# Altium schematic symbol library Horizont_11_12_2017.SchLib: 240 symbols (part 2 of 2)
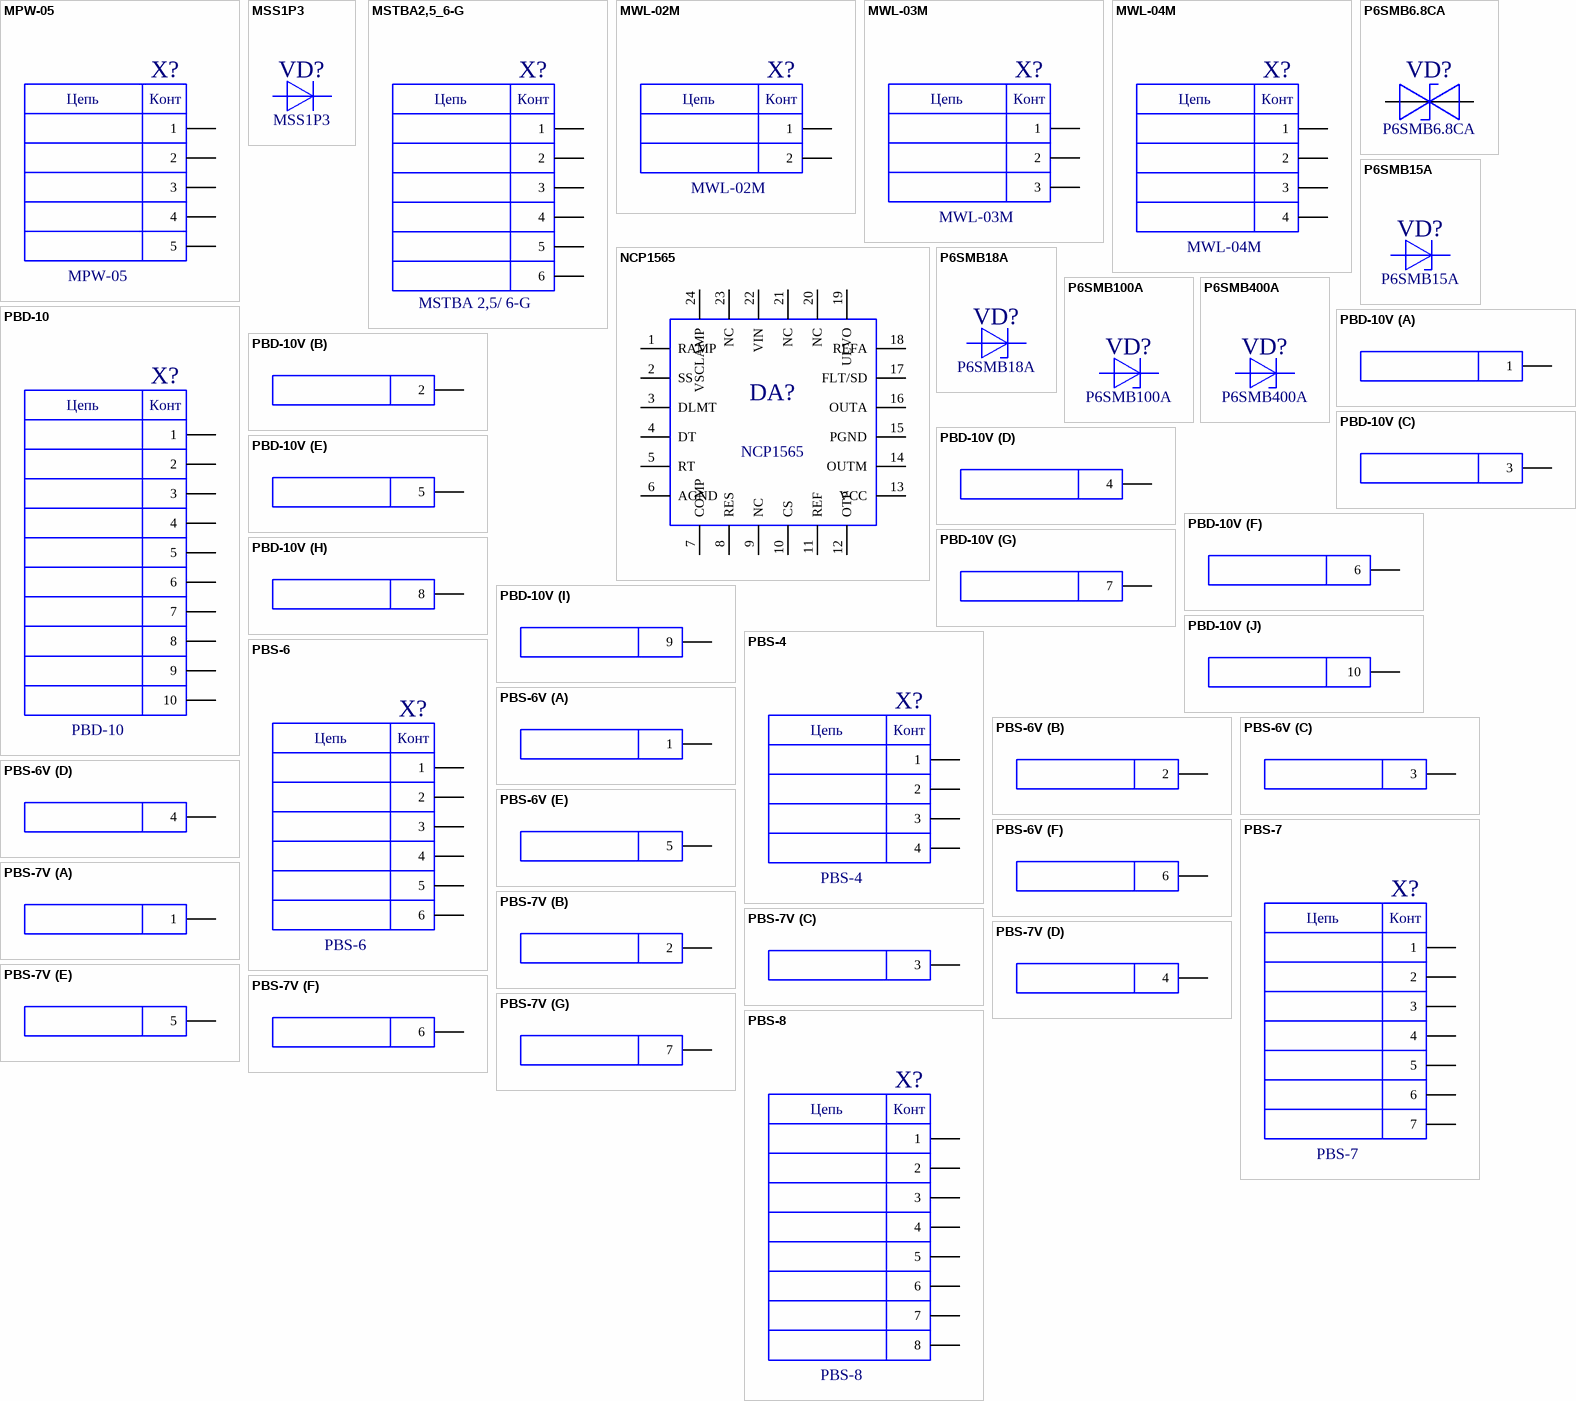
[diagram p11: symbols MPW-05 to PBS-8]

## PBD-10V
designator X?, comment PBD-10  (value not drawn)
Розетка PBD-10; ValueSch: PBD-10; DType: Розетка; ValueBOM: Розетка PBD-10; ComponentLink1Description: Datasheet; ComponentLink1URL: c:\Dataseets\Соединители\PBD.pdf
footprint PBD-10
part A pins: 1
part B pins: 2
part C pins: 3
part D pins: 4
part E pins: 5
part F pins: 6
part G pins: 7
part H pins: 8
part I pins: 9
part J pins: 10
1 alternate drawing of the same symbol

## PBS-4
designator X?
Розетка PBS-4; ValueSch: PBS-4; DType: Розетка; ValueBOM: Розетка PBS-4; ComponentLink1Description: Datasheet; ComponentLink1URL: c:\Dataseets\Соединители\PBS.pdf
footprint PBS-4
pins: 1, 2, 3, 4
text: Цепь; Конт

## PBS-6
designator X?
Розетка PBS-6; ValueSch: PBS-6; DType: Розетка; ValueBOM: Розетка PBS-6; ComponentLink1Description: Datasheet; ComponentLink1URL: c:\Dataseets\Соединители\PBS.pdf
footprint PBS-6
pins: 1, 2, 3, 4, 5, 6
text: Цепь; Конт

## PBS-6V
designator X?, comment PBS-6  (value not drawn)
Розетка PBS-6; ValueSch: PBS-6; DType: Розетка; ValueBOM: Розетка PBS-6; ComponentLink1Description: Datasheet; ComponentLink1URL: c:\Dataseets\Соединители\PBS.pdf
footprint PBS-6
part A pins: 1
part B pins: 2
part C pins: 3
part D pins: 4
part E pins: 5
part F pins: 6
1 alternate drawing of the same symbol

## PBS-7
designator X?
Розетка PBS-7; ValueSch: PBS-7; DType: Розетка; ValueBOM: Розетка PBS-7; ComponentLink1Description: Datasheet; ComponentLink1URL: c:\Dataseets\Соединители\PBS.pdf
footprint PBS-7
pins: 1, 2, 3, 4, 5, 6, 7
1 alternate drawing of the same symbol
text: Цепь; Конт

## PBS-7V
designator X?, comment PBS-7  (value not drawn)
Розетка PBS-7; ValueSch: PBS-7; DType: Розетка; ValueBOM: Розетка PBS-7; ComponentLink1Description: Datasheet; ComponentLink1URL: c:\Dataseets\Соединители\PBS.pdf
footprint PBS-7
part A pins: 1
part B pins: 2
part C pins: 3
part D pins: 4
part E pins: 5
part F pins: 6
part G pins: 7
1 alternate drawing of the same symbol

## PBS-8
designator X?
Розетка PBS-8; ValueSch: PBS-8; DType: Розетка; ValueBOM: Розетка PBS-8; ComponentLink1Description: Datasheet; ComponentLink1URL: c:\Dataseets\Соединители\PBS.pdf
footprint PBS-8
pins: 1, 2, 3, 4, 5, 6, 7, 8
1 alternate drawing of the same symbol
text: Цепь; Конт

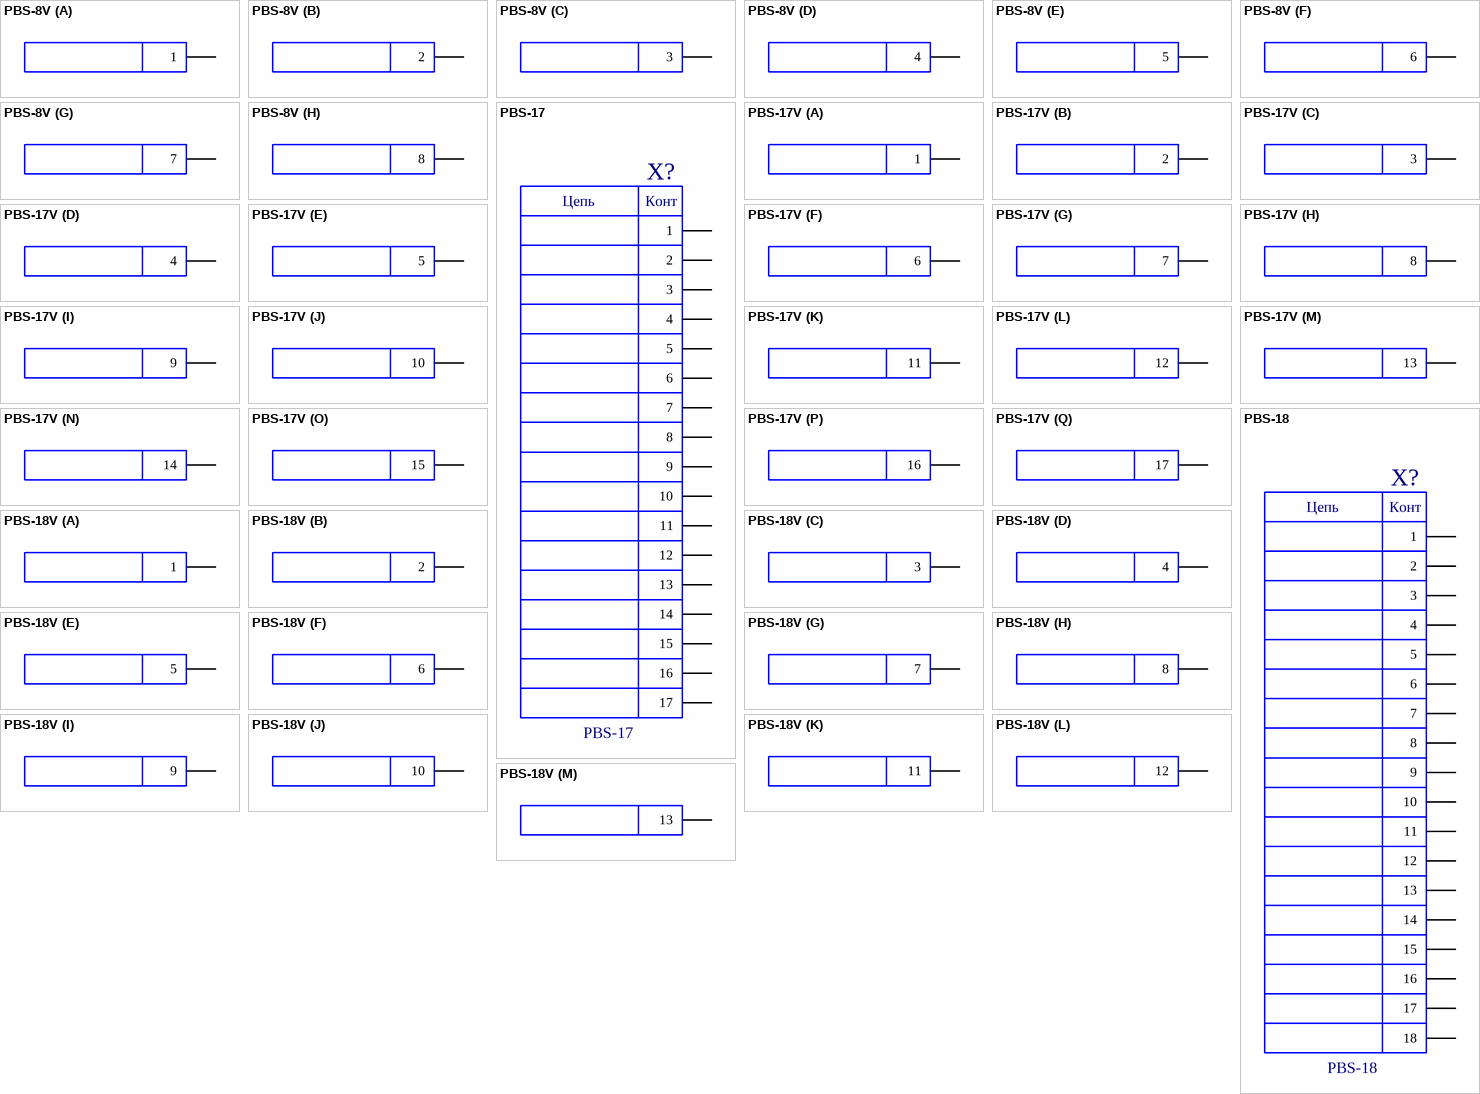
[diagram p5: symbols PBS-8V to PBS-18V]

## PBS-8V
designator X?, comment PBS-8  (value not drawn)
Розетка PBS-8; ValueSch: PBS-8; DType: Розетка; ValueBOM: Розетка PBS-8; ComponentLink1Description: Datasheet; ComponentLink1URL: c:\Dataseets\Соединители\PBS.pdf
footprint PBS-8
part A pins: 1
part B pins: 2
part C pins: 3
part D pins: 4
part E pins: 5
part F pins: 6
part G pins: 7
part H pins: 8
1 alternate drawing of the same symbol

## PBS-17
designator X?
Розетка PBS-17; ValueSch: PBS-17; DType: Розетка; ValueBOM: Розетка PBS-17; ComponentLink1Description: Datasheet; ComponentLink1URL: c:\Dataseets\Соединители\PBS.pdf
footprint PBS-17
pins: 1, 2, 3, 4, 5, 6, 7, 8, 9, 10, 11, 12, 13, 14, 15, 16, 17
1 alternate drawing of the same symbol
text: Цепь; Конт

## PBS-17V
designator X?, comment PBS-17  (value not drawn)
Розетка PBS-17; ValueSch: PBS-17; DType: Розетка; ValueBOM: Розетка PBS-17; ComponentLink1Description: Datasheet; ComponentLink1URL: c:\Dataseets\Соединители\PBS.pdf
footprint PBS-17
part A pins: 1
part B pins: 2
part C pins: 3
part D pins: 4
part E pins: 5
part F pins: 6
part G pins: 7
part H pins: 8
part I pins: 9
part J pins: 10
part K pins: 11
part L pins: 12
part M pins: 13
part N pins: 14
part O pins: 15
part P pins: 16
part Q pins: 17
1 alternate drawing of the same symbol

## PBS-18
designator X?
Розетка PBS-18; ValueSch: PBS-18; DType: Розетка; ValueBOM: Розетка PBS-18; ComponentLink1Description: Datasheet; ComponentLink1URL: c:\Dataseets\Соединители\PBS.pdf
footprint PBS-18
pins: 1, 2, 3, 4, 5, 6, 7, 8, 9, 10, 11, 12, 13, 14, 15, 16, 17, 18
1 alternate drawing of the same symbol
text: Цепь; Конт

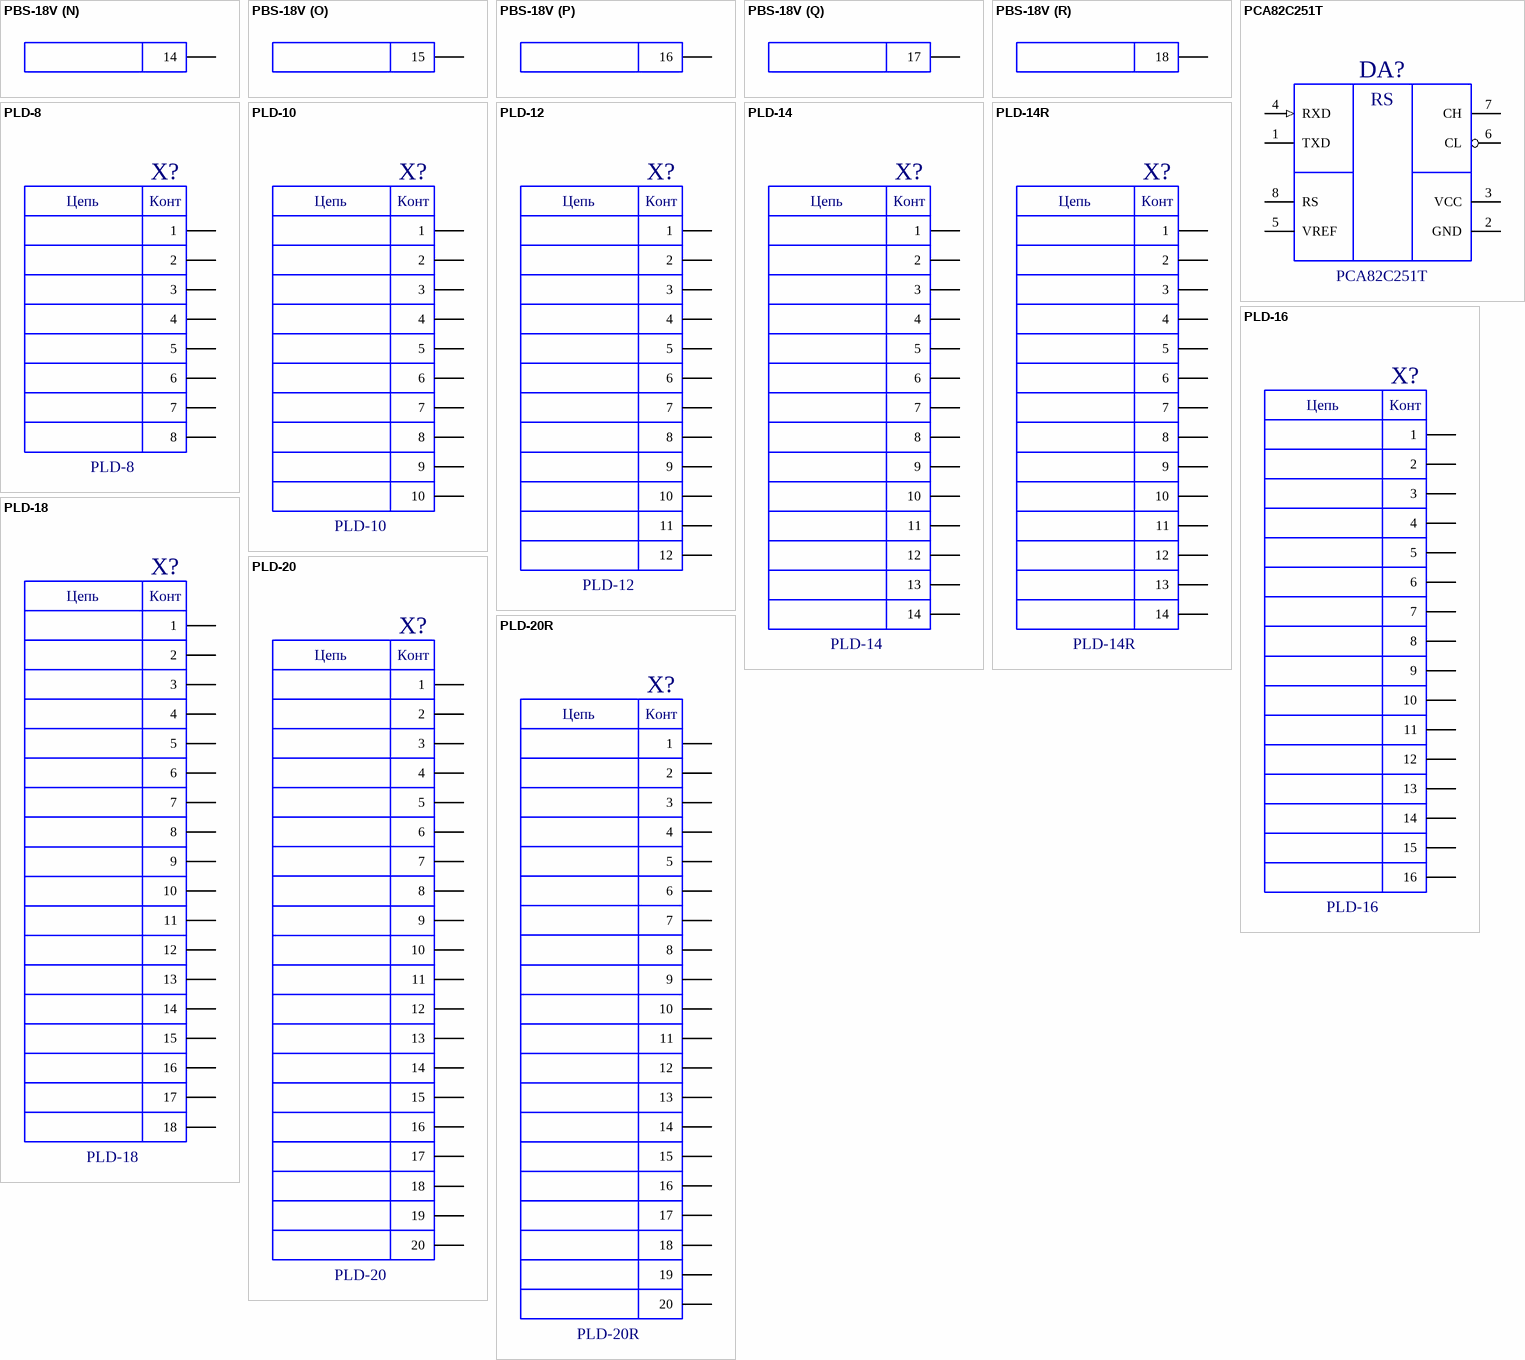
[diagram p6: symbols PBS-18V to PLD-20R]

## PBS-18V
designator X?, comment PBS-18  (value not drawn)
Розетка PBS-18; ValueSch: PBS-18; DType: Розетка; ValueBOM: Розетка PBS-18; ComponentLink1Description: Datasheet; ComponentLink1URL: c:\Dataseets\Соединители\PBS.pdf
footprint PBS-18
part A pins: 1
part B pins: 2
part C pins: 3
part D pins: 4
part E pins: 5
part F pins: 6
part G pins: 7
part H pins: 8
part I pins: 9
part J pins: 10
part K pins: 11
part L pins: 12
part M pins: 13
part N pins: 14
part O pins: 15
part P pins: 16
part Q pins: 17
part R pins: 18
1 alternate drawing of the same symbol

## PCA82C251T
designator DA?
Микросхема PCA82C251T; Manufacturer: Philips; ValueBOM: Микросхема PCA82C251T Philips; DType: Микросхема; ValueSch: PCA82C251T; ComponentLink1Description: Datasheet; ComponentLink1URL: c:\Dataseets\Микросхемы\По фирмам\Philips\pca82c251t.pdf; Package: SO8
footprint SO8h17
pins: 1 TXD, 2 GND (power), 3 VCC (power), 4 RXD (in), 5 VREF, 6 CL, 7 CH, 8 RS

## PLD-8
designator X?
Вилка PLD-8; ValueSch: PLD-8; DType: Вилка; ValueBOM: Вилка PLD-8; ComponentLink1Description: Datasheet; ComponentLink1URL: c:\Dataseets\Соединители\pld_pls.pdf
footprint PLD-8
pins: 1, 2, 3, 4, 5, 6, 7, 8
text: Цепь; Конт

## PLD-10
designator X?
Вилка PLD-10; ValueSch: PLD-10; DType: Вилка; ValueBOM: Вилка PLD-10; ComponentLink1Description: Datasheet; ComponentLink1URL: c:\Dataseets\Соединители\pld_pls.pdf
footprint PLD-10
pins: 1, 2, 3, 4, 5, 6, 7, 8, 9, 10
text: Цепь; Конт

## PLD-12
designator X?
Вилка PLD-12; ValueSch: PLD-12; DType: Вилка; ValueBOM: Вилка PLD-12; ComponentLink1Description: Datasheet; ComponentLink1URL: c:\Dataseets\Соединители\pld_pls.pdf
footprint PLD-12
pins: 1, 2, 3, 4, 5, 6, 7, 8, 9, 10, 11, 12
text: Цепь; Конт

## PLD-14
designator X?
Вилка PLD-14; ValueSch: PLD-14; DType: Вилка; ValueBOM: Вилка PLD-14; ComponentLink1Description: Datasheet; ComponentLink1URL: c:\Dataseets\Соединители\pld_pls.pdf
footprint PLD-14
pins: 1, 2, 3, 4, 5, 6, 7, 8, 9, 10, 11, 12, 13, 14
text: Цепь; Конт

## PLD-14R
designator X?
Вилка PLD-14R; ValueSch: PLD-14R; DType: Вилка; ValueBOM: Вилка PLD-14R; ComponentLink1Description: Datasheet; ComponentLink1URL: c:\Dataseets\Соединители\pld_pls.pdf
footprint PLD-14R
pins: 1, 2, 3, 4, 5, 6, 7, 8, 9, 10, 11, 12, 13, 14
text: Цепь; Конт

## PLD-16
designator X?
Вилка PLD-16; ValueSch: PLD-16; DType: Вилка; ValueBOM: Вилка PLD-16; ComponentLink1Description: Datasheet; ComponentLink1URL: c:\Dataseets\Соединители\pld_pls.pdf
footprint PLD-16
pins: 1, 2, 3, 4, 5, 6, 7, 8, 9, 10, 11, 12, 13, 14, 15, 16
text: Цепь; Конт

## PLD-18
designator X?
Вилка PLD-18; ValueSch: PLD-18; DType: Вилка; ValueBOM: Вилка PLD-18; ComponentLink1Description: Datasheet; ComponentLink1URL: c:\Dataseets\Соединители\pld_pls.pdf
footprint PLD-18
pins: 1, 2, 3, 4, 5, 6, 7, 8, 9, 10, 11, 12, 13, 14, 15, 16, 17, 18
text: Цепь; Конт

## PLD-20
designator X?
Вилка PLD-20; ValueSch: PLD-20; DType: Вилка; ValueBOM: Вилка PLD-20; ComponentLink1Description: Datasheet; ComponentLink1URL: c:\Dataseets\Соединители\pld_pls.pdf
footprint PLD-20
pins: 1, 2, 3, 4, 5, 6, 7, 8, 9, 10, 11, 12, 13, 14, 15, 16, 17, 18, 19, 20
text: Цепь; Конт

## PLD-20R
designator X?
Вилка PLD-20R; ValueSch: PLD-20R; DType: Вилка; ValueBOM: Вилка PLD-20R; ComponentLink1Description: Datasheet; ComponentLink1URL: c:\Dataseets\Соединители\pld_pls.pdf
footprint PLD-20R
pins: 1, 2, 3, 4, 5, 6, 7, 8, 9, 10, 11, 12, 13, 14, 15, 16, 17, 18, 19, 20
text: Цепь; Конт

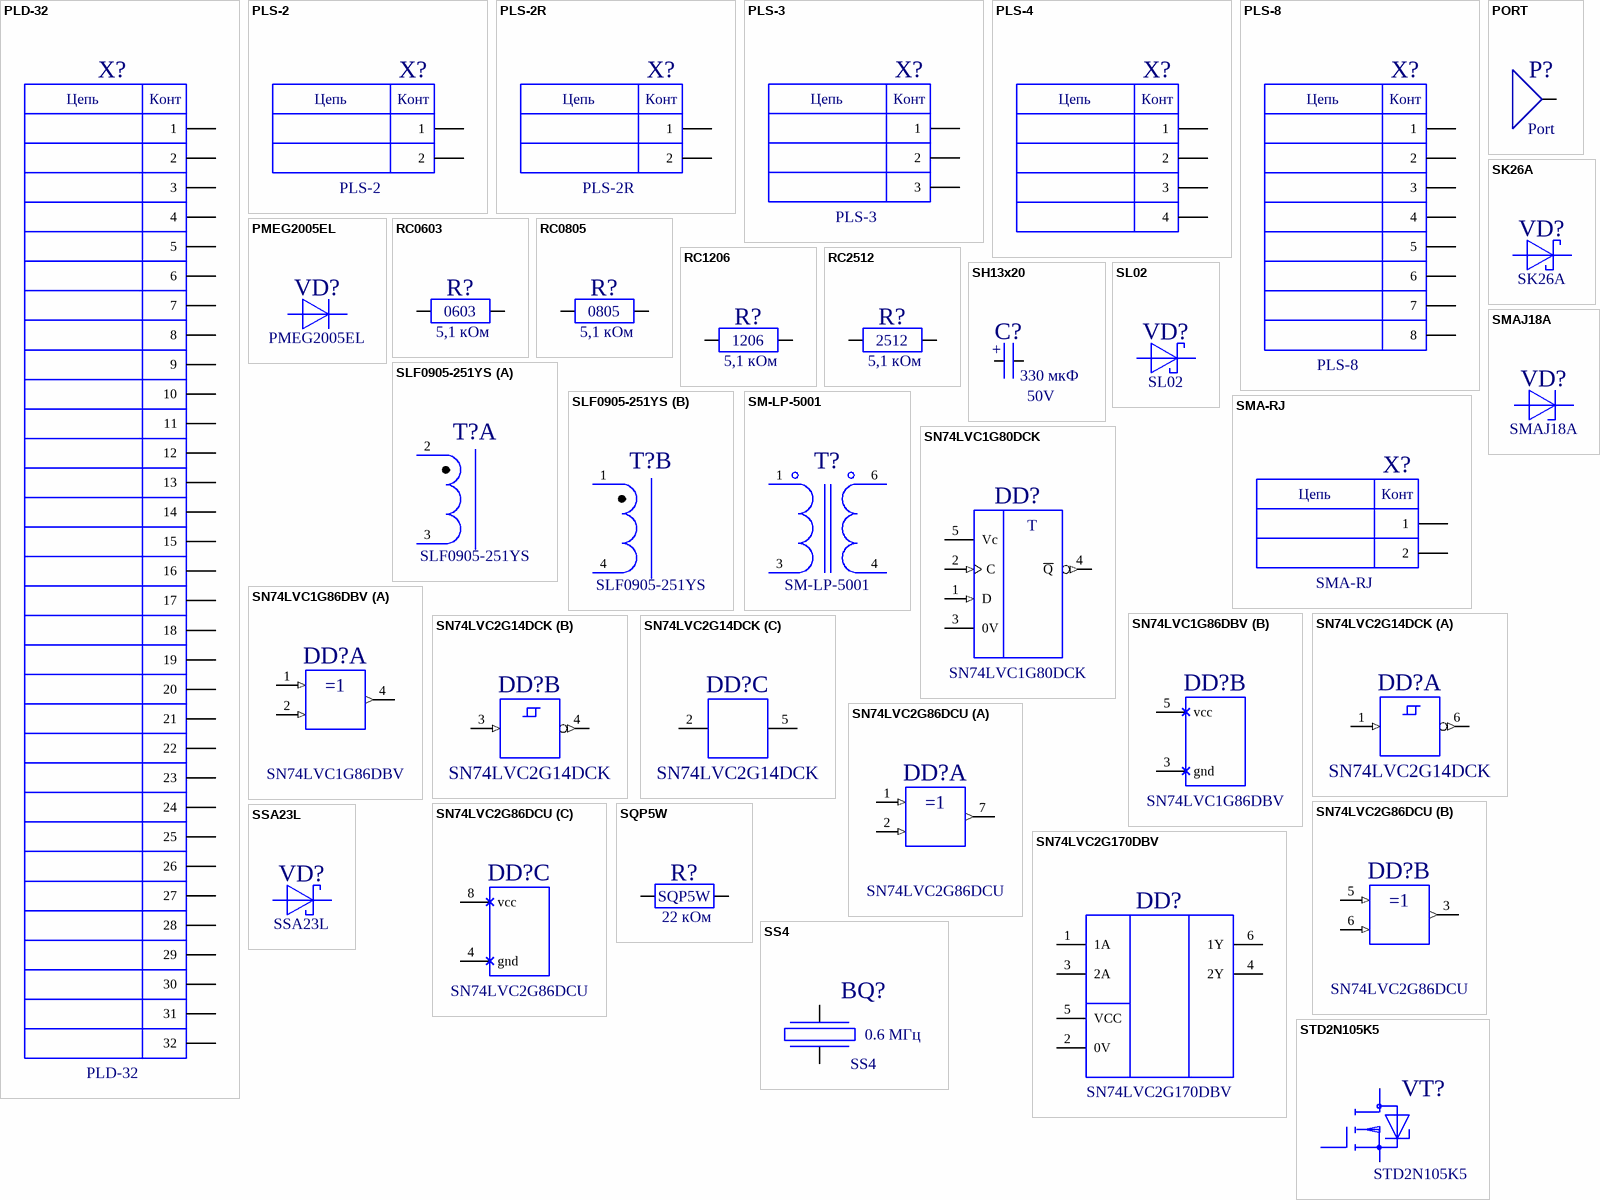
[diagram p7: symbols PLD-32 to STD2N105K5]

## PLD-32
designator X?
Вилка PLD-32; ValueSch: PLD-32; DType: Вилка; ValueBOM: Вилка PLD-32; ComponentLink1Description: Datasheet; ComponentLink1URL: c:\Dataseets\Соединители\pld_pls.pdf
footprint PLD-32
pins: 1, 2, 3, 4, 5, 6, 7, 8, 9, 10, 11, 12, 13, 14, 15, 16, 17, 18, 19, 20, 21, 22, 23, 24, 25, 26, 27, 28, 29, 30, 31, 32
text: Цепь; Конт

## PLS-2
designator X?
Вилка PLS-2; ValueSch: PLS-2; DType: Вилка; ValueBOM: Вилка PLS-2; ComponentLink1Description: Datasheet; ComponentLink1URL: c:\Dataseets\Соединители\pld_pls.pdf
footprint PLS-2
pins: 1, 2
1 alternate drawing of the same symbol
text: Цепь; Конт

## PLS-2R
designator X?
Вилка PLS-2R; ValueSch: PLS-2R; DType: Вилка; ValueBOM: Вилка PLS-2R; ComponentLink1Description: Datasheet; ComponentLink1URL: c:\Dataseets\Соединители\pld_pls.pdf
footprint PLS-2R
pins: 1, 2
1 alternate drawing of the same symbol
text: Цепь; Конт

## PLS-3
designator X?
Вилка PLS-3; ValueSch: PLS-3; DType: Вилка; ValueBOM: Вилка PLS-3; ComponentLink1Description: Datasheet; ComponentLink1URL: c:\Dataseets\Соединители\pld_pls.pdf
footprint PLS-3
pins: 1, 2, 3
1 alternate drawing of the same symbol
text: Цепь; Конт

## PLS-4
designator X?  (value not drawn)
Вилка PLS-4; ValueSch: PLS-4; DType: Вилка; ValueBOM: Вилка PLS-4; ComponentLink1Description: Datasheet; ComponentLink1URL: c:\Dataseets\Соединители\pld_pls.pdf
footprint PLS-4
pins: 1, 2, 3, 4
1 alternate drawing of the same symbol
text: Цепь; Конт

## PLS-8
designator X?
Вилка PLS-8; ValueSch: PLS-8; DType: Вилка; ValueBOM: Вилка PLS-8; ComponentLink1Description: Datasheet; ComponentLink1URL: c:\Dataseets\Соединители\pld_pls.pdf
footprint PLS-8
pins: 1, 2, 3, 4, 5, 6, 7, 8
text: Цепь; Конт

## PMEG2005EL
designator VD?
Диод PMEG2005EL; Manufacturer: NXP Semiconductors; ValueBOM: Диод PMEG2005EL NXP Semiconductors; DType: Диод; ValueSch: PMEG2005EL; ComponentLink1Description: Datasheet; ComponentLink1URL: c:\Dataseets\Диоды\По фирмам\NXP Semiconductors\PMEG2005EL.pdf; Package: SOD882
footprint SOD882
pins: 1 +, 2 -

## PORT
designator P?, comment Port
Порт; DType: Порт; DName: Port; ValueBOM: =DType + ' ' + ValueSCH +  ' ' + Manufacturer; Package: D2mm; ComponentLink1Description: Datasheet; ComponentLink1URL: c:\Dataseets\Резисторы\Yageo\rc0603_pb_free.pdf; Value: Port
footprint Port_01
pins: 1

## RC0603
designator R?, comment value 5,1 кОм  (hidden comment: RC0603JR-7W5K1L)
Резистор RC0603; Manufacturer: Yageo; ValueBOM: Резистор RC0603JR-7W5K1L Yageo; Tolerance: ±5%; Part Number: RC0603; DType: Резистор; DName: RC0603; ValueSCH: RC0603JR-7W5K1L; Package: 0603; ComponentLink1Description: Datasheet; ComponentLink1URL: c:\Dataseets\Резисторы\Yageo\rc0603_pb_free.pdf
footprint R0603h06
pins: 1, 2

## RC0805
designator R?, comment value 5,1 кОм  (hidden comment: RC0805JR-7W5K1L)
Резистор RC0805; Manufacturer: Yageo; ValueBOM: Резистор RC0805JR-7W5K1L Yageo; Tolerance: ±5%; Part Number: RC0805; DType: Резистор; DName: RC0805; ValueSCH: RC0805JR-7W5K1L; Package: 0805; ComponentLink1Description: Datasheet; ComponentLink1URL: c:\Dataseets\Резисторы\Yageo\rc0805_pb_free.pdf
footprint R0805h06
pins: 1, 2

## RC1206
designator R?, comment value 5,1 кОм  (hidden comment: RC1206JR-7W5K1L)
Резистор RC1206; Manufacturer: Yageo; ValueBOM: Резистор RC1206JR-7W5K1L Yageo; Tolerance: ±5%; Part Number: RC1206; DType: Резистор; DName: RC1206; ValueSCH: RC1206JR-7W5K1L; Package: 1206; ComponentLink1Description: Datasheet; ComponentLink1URL: c:\Dataseets\Резисторы\Yageo\rc1206_pb_free.pdf
footprint R1206h06
pins: 1, 2

## RC2512
designator R?, comment value 5,1 кОм  (hidden comment: RC2512JR-7W5K1L)
Резистор RC2512; Manufacturer: Yageo; ValueBOM: Резистор RC2512JR-7W5K1L Yageo; Tolerance: ±5%; Part Number: RC2512; DType: Резистор; DName: RC2512; ValueSCH: RC2512JR-7W5K1L; Package: 2512; ComponentLink1Description: Datasheet; ComponentLink1URL: c:\Dataseets\Резисторы\Yageo\rc2512_pb_free.pdf
footprint R2512h09
pins: 1, 2

## SH13x20
designator C?, comment value 330 мкФ  Voltage: 50V  (hidden comment: SH)
Конденсатор SH; Manufacturer: Yageo; ValueSCH: SH-330 мкФ±20%-50V; Tolerance: ±20%; DType: Конденсатор; DName: SH; ValueBOM: =DType + ' ' + ValueSCH +  ' ' + Manufacturer; Package: D13xL20; ComponentLink1Description: Datasheet; ComponentLink1URL: c:\Dataseets\Конденсаторы\Yageo\E-Cap_Miniature_SH_2011.pdf; Part Number: =ValueSch
footprint SH13x20
footprint SH13x20_Horizont
pins: 1, 2
text: +

## SK26A
designator VD?
Диод Шоттки SK26A; Manufacturer: TSC; ValueBOM: Диод Шоттки SK26A TSC; DType: Диод Шоттки; ValueSch: SK26A; ComponentLink1Description: Datasheet; ComponentLink1URL: c:\Dataseets\Диоды\По фирмам\TSC\SK26A.pdf; Package: SMA
footprint SMA
pins: 1 +, 2 -

## SL02
designator VD?
Диод Шоттки SL02; Manufacturer: Vishay Semiconductors; ValueBOM: Диод Шоттки SL02 Vishay Semiconductors; DType: Диод Шоттки; ValueSch: SL02; ComponentLink1Description: Datasheet; ComponentLink1URL: c:\Dataseets\Диоды\По фирмам\Vishay Semiconductors\sl02.pdf; Package: SMF
footprint SMF
pins: 1 +, 2 -

## SLF0905-251YS
designator T?
Синфазный фильтр SLF0905-251YS; Manufacturer: c:\Dataseets\Трансформаторы\По фирмам\Coilmaster Electronics\SLF0905-251YS (Синфазный фильтр).pdf; ValueBOM: Синфазный фильтр SLF0905-251YS c:\Dataseets\Трансформаторы\По фирмам\Coilmaster Electronics\SLF0905-251YS (Синфазный фильтр).pdf; DType: Синфазный фильтр; ValueSch: SLF0905-251YS; ComponentLink1Description: Datasheet; ComponentLink1URL: c:\Dataseets\Трансформаторы\По фирмам\Bourns\smlp5001.pdf
footprint SLF0905
part A pins: 2, 3
part B pins: 1, 4

## SM-LP-5001
designator T?
Трансформатор SM-LP-5001; Manufacturer: Bourns; ValueBOM: Трансформатор SM-LP-5001 Bourns; DType: Трансформатор; ValueSch: SM-LP-5001; ComponentLink1Description: Datasheet; ComponentLink1URL: c:\Dataseets\Трансформаторы\По фирмам\Bourns\smlp5001.pdf
footprint SM-LP
pins: 1, 3, 4, 6

## SMA-RJ
designator X?
Вилка SMA-RJ; ValueSch: SMA-RJ; DType: Вилка; ValueBOM: Вилка SMA-RJ; ComponentLink1Description: Datasheet; ComponentLink1URL: c:\Dataseets\Соединители\pld_pls.pdf
footprint SMA-RJ
pins: 1, 2
1 alternate drawing of the same symbol
text: Цепь; Конт

## SMAJ18A
designator VD?
TVS-диод SMAJ18A; Manufacturer: Littelfuse; ValueBOM: TVS-диод SMAJ18A Littelfuse; DType: TVS-диод; ValueSch: SMAJ18A; ComponentLink1Description: Datasheet; ComponentLink1URL: c:\Dataseets\Диоды\По фирмам\Littelfuse\TVS-Diode_SMAJ.pdf; Package: SMB
footprint SMA
pins: 1 +, 2 -

## SN74LVC1G80DCK
designator DD?
Микросхема SN74LVC1G80DCK; Manufacturer: Texas Instruments; ValueBOM: Микросхема SN74LVC1G80DCK Texas Instruments; ValueSch: SN74LVC1G80DCK; DType: Микросхема; ComponentLink1Description: Datasheet; ComponentLink1URL: c:\Dataseets\Микросхемы\По фирмам\Texas Instruments\SN74LVC1G80DCK.pdf; Package: SC70-5
footprint SC70-5
pins: 1 D (in), 2 C (in), 3 0V (power), 4 ~{Q} (out), 5 Vc (power)
text: T

## SN74LVC1G86DBV
designator DD?
Микросхема SN74LVC1G86DBV; Manufacturer: Texas Instruments; ValueBOM: Микросхема SN74LVC1G86DBV Texas Instruments; ValueSch: SN74LVC1G86DBV; DType: Микросхема; ComponentLink1Description: Datasheet; ComponentLink1URL: c:\Dataseets\Микросхемы\По фирмам\Texas Instruments\sn74lvc1g86.pdf; Package: SOT23-5
footprint SOT23-5
part A pins: 1 A (in), 2 B (in), 4 Y (out)
part B pins: 3 gnd (power), 5 vcc (power)

## SN74LVC2G14DCK
designator DD?
Микросхема SN74LVC2G14DCK; Manufacturer: Texas Instruments; ValueBOM: Микросхема SN74LVC2G14DCK Texas Instruments; DType: Микросхема; ValueSch: SN74LVC2G14DCK; Package: SC70-6; ComponentLink1URL: c:\Dataseets\Микросхемы\По фирмам\Texas Instruments\SN74LVC2G14.pdf; ComponentLink1Description: Datasheet
footprint SC70-6
part A pins: 1 I (in), 6 O (out)
part B pins: 3 I (in), 4 O (out)
part C pins: 2 GND (power), 5 VCC (power)

## SN74LVC2G86DCU
designator DD?
Микросхема SN74LVC2G86DCU; Manufacturer: Texas Instruments; ValueBOM: Микросхема SN74LVC2G86DCU Texas Instruments; ValueSch: SN74LVC2G86DCU; DType: Микросхема; ComponentLink1Description: Datasheet; ComponentLink1URL: c:\Dataseets\Микросхемы\По фирмам\Texas Instruments\sn74lvc1g86.pdf; Package: DCU
footprint DCU(R-PDSO-G8) TI
part A pins: 1 A (in), 2 B (in), 7 Y (out)
part B pins: 3 Y (out), 5 A (in), 6 B (in)
part C pins: 4 gnd (power), 8 vcc (power)

## SN74LVC2G170DBV
designator DD?
Микросхема SN74LVC2G170DBV; Manufacturer: Texas Instruments; ValueBOM: Микросхема SN74LVC2G170DBV Texas Instruments; ValueSch: SN74LVC2G170DBV; DType: Микросхема; ComponentLink1Description: Datasheet; ComponentLink1URL: c:\Dataseets\Микросхемы\По фирмам\Texas Instruments\sn74lvc2g170.pdf; Package: SOT23-6
footprint SOT23-6
pins: 1 1A, 2 0V, 3 2A, 4 2Y, 5 VCC, 6 1Y

## SQP5W
designator R?  value 22 кОм  (hidden comment: SQP5W)
Резистор SQP5W; Part Number: SQP500JB-22K; Manufacturer: Yageo; ValueBOM: Резистор SQP500JB-22K Yageo; Tolerance: ±5%; DType: Резистор; DName: SQP5W; ValueSCH: SQP500JB-22K; Package: SQP5W; ComponentLink1Description: Datasheet; ComponentLink1URL: c:\Dataseets\Резисторы\Yageo\SQP-NSP.pdf
footprint SQP5W
pins: 1, 2

## SS4
designator BQ?  value 0.6 МГц
Резонатор SS4; Part Number: Q 6.0-SS4-30-30/100-T1-FU-LF; Manufacturer: Jauch; ValueBOM: Резонатор Q 6.0-SS4-30-30/100-T1-FU-LF Jauch; DType: Резонатор; DName: SS4; ValueSCH: Q 6.0-SS4-30-30/100-T1-FU-LF; ComponentLink1Description: Datasheet; ComponentLink1URL: c:\Dataseets\Кварцевые резонаторы и генераторы\По фирмам\Jauch\SS4.pdf
footprint SS4
pins: 1, 2

## SSA23L
designator VD?
Диод Шоттки SSA23L; Manufacturer: Vishay Semiconductors; ValueBOM: Диод Шоттки SSA23L Vishay Semiconductors; DType: Диод Шоттки; ValueSch: SSA23L; ComponentLink1Description: Datasheet; ComponentLink1URL: c:\Dataseets\Диоды\По фирмам\Vishay Semiconductors\ssa23l,SSA24.pdf; Package: SMA
footprint SMA
pins: 1 +, 2 -

## STD2N105K5
designator VT?
Транзистор STD2N105K5; Manufacturer: ST; ValueBOM: Транзистор STD2N105K5 ST; DType: Транзистор; ValueSch: STD2N105K5; ComponentLink1Description: Datasheet; ComponentLink1URL: c:\Dataseets\Транзисторы\По фирмам\International Rectifier\irfl9014.pdf; Package: DPAK
footprint DPAC
pins: 1 G, 2 D, 3 S

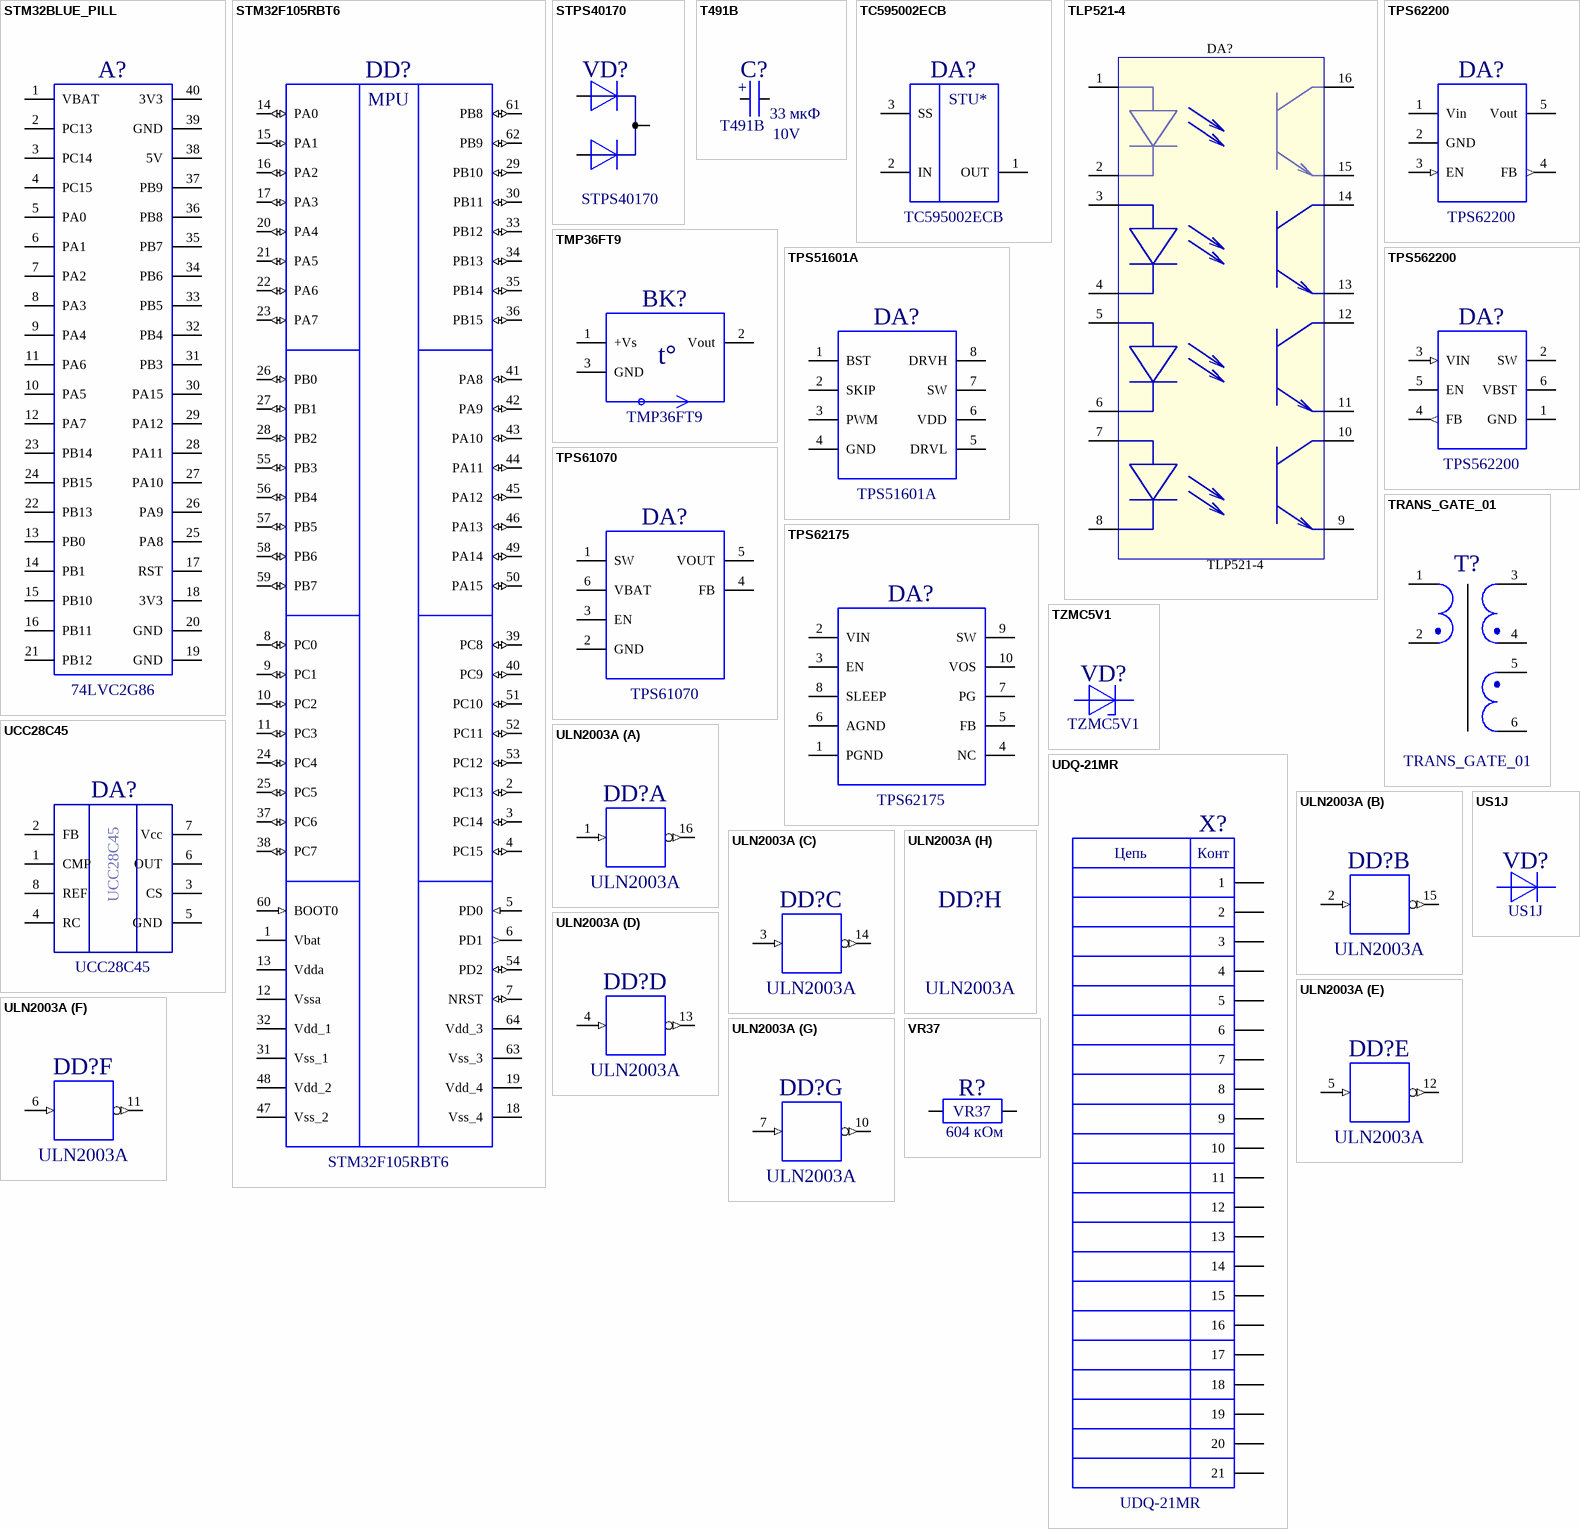
[diagram p8: symbols STM32BLUE_PILL to VR37]

## STM32BLUE_PILL
designator A?, comment 74LVC2G86
STM32F103C8; Manufacturer: NXP; DType: Микросхема; ValueBOM: Микросхема 74LVC2G86 NXP; ValueSch: 74LVC2G86; ComponentLink1Description: Datasheet; ComponentLink1URL: c:\Dataseets\Микросхемы\По фирмам\Avago Technologies\HCPL-4100.pdf; Package: TSSOP8
footprint STM32BLUE_PILL
pins: 1 VBAT, 2 PC13, 3 PC14, 4 PC15, 5 PA0, 6 PA1, 7 PA2, 8 PA3, 9 PA4, 10 PA5, 11 PA6, 12 PA7, 13 PB0, 14 PB1, 15 PB10, 16 PB11, 17 RST, 18 3V3, 19 GND, 20 GND, 21 PB12, 22 PB13, 23 PB14, 24 PB15, 25 PA8, 26 PA9, 27 PA10, 28 PA11, 29 PA12, 30 PA15, 31 PB3, 32 PB4, 33 PB5, 34 PB6, 35 PB7, 36 PB8, 37 PB9, 38 5V, 39 GND, 40 3V3

## STM32F105RBT6
designator DD?
Микросхема STM32F105RBT6; Manufacturer: ST Microelectronics; ValueBOM: Микросхема STM32F105RBT6 ST Microelectronics; ValueSch: STM32F105RBT6; DType: Микросхема; ComponentLink1Description: Datasheet; ComponentLink1URL: c:\Dataseets\Микросхемы\По фирмам\ST Microelectronics\STM32F105R64.pdf; Package: LQFP64
footprint LQFP64
pins: 1 Vbat (power), 2 PС13 (io), 3 PС14 (io), 4 PС15 (io), 5 PD0 (in), 6 PD1 (out), 7 NRST (io), 8 PC0 (io), 9 PC1 (io), 10 PC2 (io), 11 PC3 (io), 12 Vssa (power), 13 Vdda (power), 14 PA0 (io), 15 PA1 (io), 16 PA2 (io), 17 PA3 (io), 18 Vss_4 (power), 19 Vdd_4 (power), 20 PA4 (io), 21 PA5 (io), 22 PA6 (io), 23 PA7 (io), 24 PC4 (io), 25 PC5 (io), 26 PB0 (io), 27 PB1 (io), 28 PB2 (io), 29 PB10 (io), 30 PB11 (io), 31 Vss_1 (power), 32 Vdd_1 (power), 33 PB12 (io), 34 PB13 (io), 35 PB14 (io), 36 PB15 (io), 37 PC6 (io), 38 PC7 (io), 39 PС8 (io), 40 PС9 (io), 41 PА8 (io), 42 PА9 (io), 43 PА10 (io), 44 PА11 (io), 45 PА12 (io), 46 PА13 (io), 47 Vss_2 (power), 48 Vdd_2 (power), 49 PА14 (io), 50 PА15 (io), 51 PС10 (io), 52 PС11 (io), 53 PС12 (io), 54 PD2 (io), 55 PB3 (io), 56 PB4 (io), 57 PB5 (io), 58 PB6 (io), 59 PB7 (io), 60 BOOT0 (in), 61 PB8 (io), 62 PB9 (io), 63 Vss_3 (power), 64 Vdd_3 (power)
text: MPU

## STPS40170
designator VD?
Диод STPS40170; Manufacturer: ST; ValueBOM: Диод STPS40170 ST; DType: Диод; ValueSch: STPS40170; ComponentLink1Description: Datasheet; ComponentLink1URL: c:\Dataseets\Диоды\По фирмам\NXP Semiconductors\PMEG2005EL.pdf; Package: D2PAK
footprint D2PAC
pins: 1 A1, 2 K, 3 A2

## T491B
designator C?  value 33 мкФ  Voltage: 10V
Конденсатор T491B; Manufacturer: KEMET; ValueSCH: T491B336K010AT; ValueBOM: Конденсатор T491B336K010AT KEMET; Tolerance: ±10%; DType: Конденсатор; DName: T491B; Package: "B"; ComponentLink1Description: Datasheet; ComponentLink1URL: c:\Dataseets\Конденсаторы\KEMET\T491.pdf; Part Number: T491B336K010AT
footprint CP3528-21
pins: 1, 2
text: +

## TC595002ECB
designator DA?
Микросхема TC595002ECB; Manufacturer: Microchip Technology; ValueBOM: Микросхема TC595002ECB Microchip Technology; DType: Микросхема; ValueSch: TC595002ECB; ComponentLink1Description: Datasheet; ComponentLink1URL: c:\Dataseets\Микросхемы\По фирмам\Microchip Technology\TC595002.pdf; Package: SOT23
footprint SOT23H11
pins: 1 OUT, 2 IN, 3 SS
text: STU*

## TLP521-4
designator DA?
footprint DIP16
pins: 1 Vcc, 2 Vcc, 3 Vcc, 4 Vcc, 5 Vcc, 6 Vcc, 7 Vcc, 8 Vcc, 9 Vcc, 10 Vcc, 11 Vcc, 12 Vcc, 13 Vcc, 14 Vcc, 15 Vcc, 16 Vcc

## TMP36FT9
designator BK?
Датчик температуры TMP36FT9; Manufacturer: Analog Devises; ValueBOM: Датчик температуры TMP36FT9 Analog Devises; DType: Датчик температуры; ValueSch: TMP36FT9; ComponentLink1Description: Datasheet; ComponentLink1URL: c:\Dataseets\датчики\датчик температуры\TMP36.pdf; Package: SOT23
footprint TO92VERT
footprint TO92GOR
pins: 1 +Vs (power), 2 Vout (power), 3 GND (power)
text: t°

## TPS51601A
designator DA?
Микросхема TPS61070; Manufacturer: Texas Instruments; ValueBOM: Микросхема TPS51601A Texas Instruments; ValueSch: TPS51601A; DType: Микросхема; ComponentLink1Description: Datasheet; ComponentLink1URL: c:\Dataseets\Микросхемы\По фирмам\Avago Technologies\HCPL-4100.pdf; Package: SON
footprint SON
pins: 1 BST, 2 SKIP, 3 PWM, 4 GND, 5 DRVL, 6 VDD, 7 SW, 8 DRVH

## TPS61070
designator DA?
Микросхема TPS61070; Manufacturer: Texas Instruments; ValueBOM: Микросхема TPS61070 Texas Instruments; DType: Микросхема; ComponentLink1Description: Datasheet; ComponentLink1URL: c:\Dataseets\Микросхемы\По фирмам\Avago Technologies\HCPL-4100.pdf; Package: SOT23-6; ValueSch: TPS61070
footprint SOT23-6
pins: 1 SW, 2 GND, 3 EN, 4 FB, 5 VOUT, 6 VBAT

## TPS62175
designator DA?
Микросхема TPS62175; Manufacturer: Texas Instruments; ValueBOM: Микросхема TPS62175 Texas Instruments; ValueSch: TPS62175; DType: Микросхема; ComponentLink1Description: Datasheet; ComponentLink1URL: c:\Dataseets\Микросхемы\По фирмам\Fairchild Semiconductor\fan3100tsx.pdf; Package: WSON-10
footprint WSON_10
pins: 1 PGND, 2 VIN, 3 EN, 4 NC, 5 FB, 6 AGND, 7 PG, 8 SLEEP, 9 SW, 10 VOS

## TPS62200
designator DA?
Микросхема TPS62200; Manufacturer: Texas Instruments; ValueBOM: Микросхема TPS62200 Texas Instruments; ValueSch: TPS62200; DType: Микросхема; ComponentLink1Description: Datasheet; ComponentLink1URL: c:\Dataseets\Микросхемы\По фирмам\Texas Instruments\TPS62200.pdf; Package: SOT23-5
footprint SOT23-5
pins: 1 Vin (power), 2 GND (power), 3 EN (in), 4 FB (out), 5 Vout (power)

## TPS562200
designator DA?
Микросхема TPS562200; Manufacturer: Texas Instruments; ValueBOM: Микросхема TPS562200 Texas Instruments; ValueSch: TPS562200; DType: Микросхема; ComponentLink1Description: Datasheet; ComponentLink1URL: c:\Dataseets\Микросхемы\По фирмам\Texas Instruments\TPS62200.pdf; Package: SOT23-6
footprint SOT23-6
pins: 1 GND (power), 2 SW (power), 3 VIN (in), 4 FB (out), 5 EN (power), 6 VBST (power)

## TRANS_GATE_01
designator T?
Трансформатор TRANS_GATE_01; ValueBOM: Трансформатор TRANS_GATE_01; DType: Трансформатор; ValueSch: TRANS_GATE_01; ComponentLink1Description: Datasheet
footprint TRANS_HB_01
pins: 1, 2, 3, 4, 5, 6

## TZMC5V1
designator VD?
Стабилитрон TZMC5V1; Manufacturer: Vishay Semiconductors; ValueBOM: Стабилитрон TZMC5V1 Vishay Semiconductors; DType: Стабилитрон; ValueSch: TZMC5V1; ComponentLink1Description: Datasheet; ComponentLink1URL: c:\Dataseets\Стабилитроны\По фирмам\Vishay Semiconductors\TZM.pdf; Package: MiniMELF
footprint MiniMELF
pins: 1 +, 2 -

## UCC28C45
designator DA?
Микросхема UCC28C45; Manufacturer: Texas instruments; ValueBOM: Микросхема UCC28C45 Texas instruments; DType: Микросхема; ValueSch: UCC28C45; ComponentLink1Description: Datasheet; ComponentLink1URL: c:\Dataseets\Микросхемы\По фирмам\International Rectifier\IRS27951S.pdf; Package: SO-8
footprint SO8h17
pins: 1 CMP, 2 FB, 3 CS, 4 RC, 5 GND, 6 OUT, 7 Vcc, 8 REF

## UDQ-21MR
designator X?
Вилка UDQ-21MR; ValueSch: UDQ-21MR; DType: Вилка; ValueBOM: Вилка UDQ-21MR; ComponentLink1Description: Datasheet; ComponentLink1URL: c:\Dataseets\Соединители\pld_pls.pdf
footprint PLD-20
pins: 1, 2, 3, 4, 5, 6, 7, 8, 9, 10, 11, 12, 13, 14, 15, 16, 17, 18, 19, 20, 21
text: Цепь; Конт

## ULN2003A
designator DD?
Микросхема ULN2003A; Manufacturer: ST Microelectronics; ValueBOM: Микросхема ULN2003A ST Microelectronics; DType: Микросхема; ValueSch: ULN2003A; Package: SO14
footprint SO16h17
pins on every part: 8 VSS (power) hidden to +5V, 9 GND (power) hidden to GND
part A pins: 1 I (in), 16 O (out)
part B pins: 2 I (in), 15 O (out)
part C pins: 3 I (in), 14 O (out)
part D pins: 4 I (in), 13 O (out)
part E pins: 5 I (in), 12 O (out)
part F pins: 6 I (in), 11 O (out)
part G pins: 7 I (in), 10 O (out)
1 alternate drawing of the same symbol

## US1J
designator VD?
Диод US1J; Manufacturer: Vishay Semiconductors; ValueBOM: Диод US1J Vishay Semiconductors; DType: Диод; ValueSch: US1J; ComponentLink1Description: Datasheet; ComponentLink1URL: c:\Dataseets\Диоды\По фирмам\Vishay Semiconductors\mcl4148,mcl4448.pdf; Package: SMA
footprint SMA
pins: 1 +, 2 -

## VR37
designator R?  value 604 кОм  (hidden comment: VR37)
Резистор VR37; Manufacturer: Vishay; ValueSCH: VR3700006043FA100; ValueBOM: Резистор VR3700006043FA100 Vishay; Tolerance: ±1%; Part Number: VR37; DType: Резистор; DName: VR37; Package: VR37; ComponentLink1Description: Datasheet; ComponentLink1URL: c:\Dataseets\Резисторы\Vishay\vr37.pdf
footprint VR37_Dip15
footprint VR37_Pl19,3
pins: 1, 2

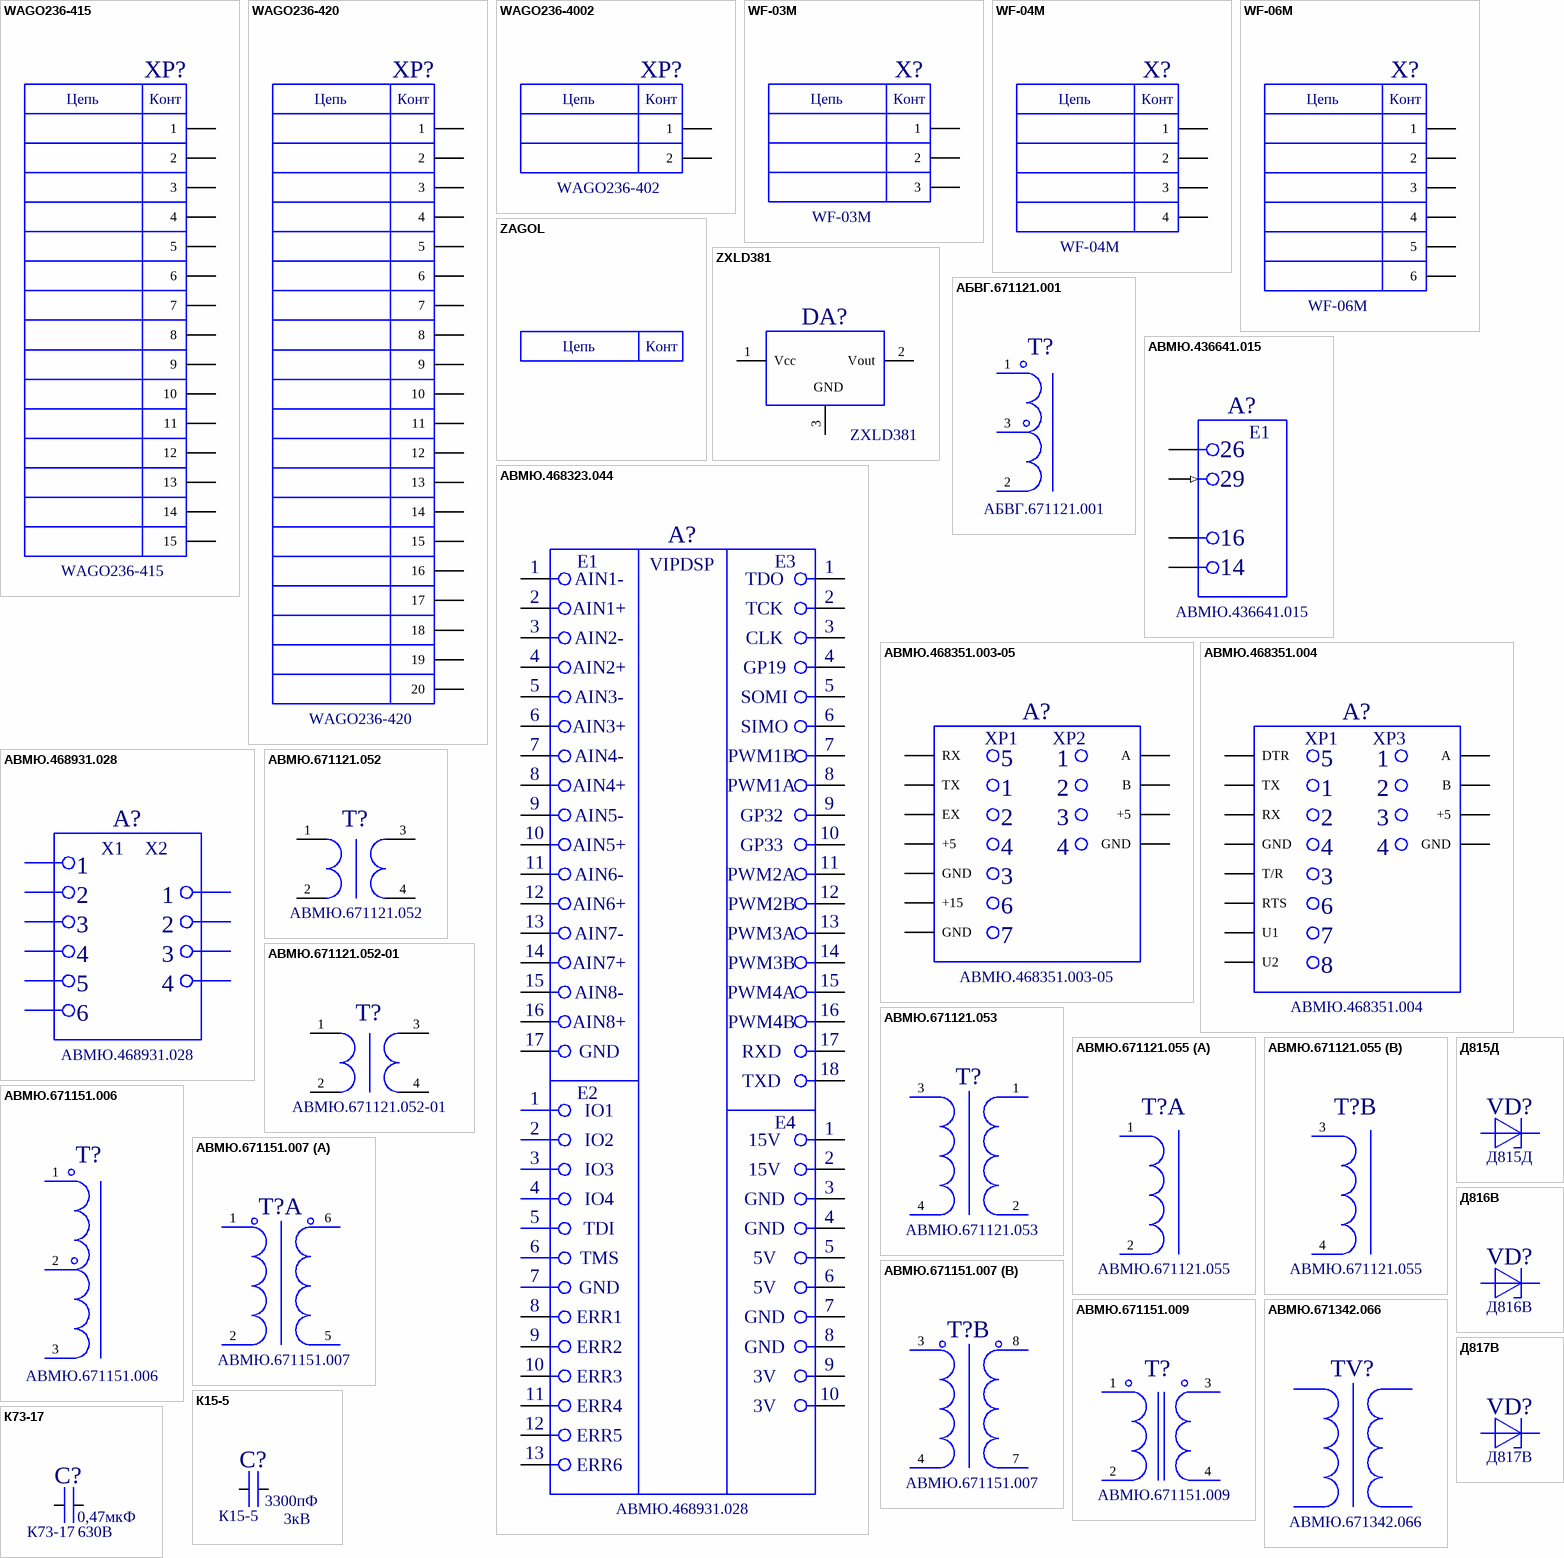
[diagram p9: symbols WAGO236-415 to К73-17]

## WAGO236-415
designator XP?
Клеммник WAGO236-415; Manufacturer: WAGO; ValueBOM: Клеммник WAGO236-415 WAGO; ValueSch: WAGO236-415; DType: Клеммник; ComponentLink1Description: Datasheet; ComponentLink1URL: c:\Dataseets\Соединители\По фирмам\WAGO\WAGO236.pdf
footprint WAGO236-415
pins: 1, 2, 3, 4, 5, 6, 7, 8, 9, 10, 11, 12, 13, 14, 15
text: Цепь; Конт

## WAGO236-420
designator XP?
Клеммник WAGO236-420; Manufacturer: WAGO; ValueBOM: Клеммник WAGO236-420 WAGO; ValueSch: WAGO236-420; DType: Клеммник; ComponentLink1Description: Datasheet; ComponentLink1URL: c:\Dataseets\Соединители\По фирмам\WAGO\WAGO236.pdf
footprint WAGO236-420
pins: 1, 2, 3, 4, 5, 6, 7, 8, 9, 10, 11, 12, 13, 14, 15, 16, 17, 18, 19, 20
text: Цепь; Конт

## WAGO236-4002
designator XP?, comment WAGO236-402
Клеммник WAGO236-402; Manufacturer: WAGO; ValueBOM: Клеммник WAGO236-402 WAGO; ValueSch: WAGO236-402; DType: Клеммник; ComponentLink1Description: Datasheet; ComponentLink1URL: c:\Dataseets\Соединители\По фирмам\WAGO\WAGO236.pdf
footprint WAGO236-402
pins: 1, 2
text: Цепь; Конт

## WF-03M
designator X?
Вилка WF-03M; ValueSch: WF-03M; DType: Вилка; ValueBOM: Вилка WF-03M; ComponentLink1Description: Datasheet; ComponentLink1URL: c:\Dataseets\Соединители\WFM.pdf
footprint WF-03M
pins: 1, 2, 3
text: Цепь; Конт

## WF-04M
designator X?
Вилка WF-04M; ValueSch: WF-04M; DType: Вилка; ValueBOM: Вилка WF-04M; ComponentLink1Description: Datasheet; ComponentLink1URL: c:\Dataseets\Соединители\WFM.pdf
footprint WF-04M
pins: 1, 2, 3, 4
text: Цепь; Конт

## WF-06M
designator X?
Вилка WF-06M; ValueSch: WF-06M; DType: Вилка; ValueBOM: Вилка WF-06M; ComponentLink1Description: Datasheet; ComponentLink1URL: c:\Dataseets\Соединители\WFM.pdf
footprint WF-06M
pins: 1, 2, 3, 4, 5, 6
text: Цепь; Конт

## ZAGOL
designator ?  (graphical)
Заголовок
1 alternate drawing of the same symbol
text: Цепь; Конт

## ZXLD381
designator DA?
Микросхема ZXLD381; Manufacturer: Zetex; ValueBOM: Микросхема ZXLD381 Zetex; ValueSch: ZXLD381; DType: Микросхема; ComponentLink1Description: Datasheet; ComponentLink1URL: c:\Dataseets\Микросхемы\По фирмам\ON Semiconductor\MC78.pdf; Package: SOT23
footprint SOT23H11
pins: 1 Vcc (power), 2 Vout (power), 3 GND (power)

## АБВГ.671121.001
designator T?
Трансформатор АБВГ.671121.001; ValueBOM: Трансформатор АБВГ.671121.001; DType: Трансформатор; ValueSch: АБВГ.671121.001; ComponentLink1Description: Datasheet
footprint АБВГ.671121.001
pins: 1, 2, 3

## АВМЮ.436641.015
designator A?
Модуль ВИП30-300.8.8.2W-1 АВМЮ.436641.015; ValueBOM: Модуль ВИП30-300.8.8.2W-1 АВМЮ.436641.015; DType: Модуль ВИП30-300.8.8.2W-1; ValueSch: АВМЮ.436641.015; ComponentLink1Description: Datasheet
footprint АВМЮ.436641.015
pins: 14 0V (power), 16 VC (power), 26 +110, 29 -110 (in)
1 alternate drawing of the same symbol
text: E1

## АВМЮ.468323.044
designator A?, comment АВМЮ.468931.028
Усилитель АВМЮ.468931.028; ValueBOM: Усилитель АВМЮ.468931.028; DType: Усилитель; ValueSch: АВМЮ.468931.028; ComponentLink1Description: Datasheet
footprint АВМЮ.468323.044
pins: XP1_1, XP1_2, XP1_3, XP1_4, XP1_5, XP1_6, XP1_7, XP1_8, XP1_9, XP1_10, XP1_11, XP1_12, XP1_13, XP1_14, XP1_15, XP1_16, XP1_17, XP2_1, XP2_2, XP2_3, XP2_4, XP2_5, XP2_6, XP2_7, XP3_1, XP3_2, XP3_3, XP3_4, XP3_5, XP3_6, XP3_7, XP3_8, XP3_9, XP3_10, XP3_11, XP3_12, XP3_13, XP3_14, XP3_15, XP3_16, XP3_17, XP3_18, XP4_1, XP4_2, XP4_3, XP4_4, XP4_5, XP4_6, XP4_7, XP4_8, XP4_9, XP4_10
text: 1; E1; VIPDSP; E3; AIN1-; TDO; 2; AIN1+; TCK; 3; AIN2-; CLK; 4; AIN2+; GP19; 5; AIN3-; SOMI; 6; AIN3+; SIMO; 7; AIN4-; PWM1B; 8; AIN4+; PWM1A; 9; AIN5-; GP32; 10; AIN5+; GP33; 11; AIN6-; PWM2A; 12; AIN6+; PWM2B; 13; AIN7-; PWM3A; 14; AIN7+; PWM3B; 15; AIN8-; PWM4A; 16; AIN8+; PWM4B; 17; GND; RXD; 18; TXD; E2; IO1; E4; IO2; 15V; IO3; IO4; TDI; TMS; 5V; ERR1; ERR2; ERR3; 3V; ERR4; ERR5; ERR6

## АВМЮ.468351.003-05
designator A?
Адаптер SCI-RS485 АВМЮ.468351.003-05; ValueBOM: Адаптер SCI-RS485 АВМЮ.468351.003-05; DType: Адаптер SCI-RS485; ValueSch: АВМЮ.468351.003-05; ComponentLink1Description: Datasheet
footprint АВМЮ.468351.003-05
pins: XP1_1 TX, XP1_2 EX, XP1_3 GND, XP1_4 +5, XP1_5 RX, XP1_6 +15, XP1_7 GND, XP2_1 A, XP2_2 B, XP2_3 +5, XP2_4 GND
text: XP1; XP2; 5; 1; 2; 3; 4; 6; 7

## АВМЮ.468351.004
designator A?
Адаптер АВМЮ.468351.004; ValueBOM: Адаптер RS232-485 АВМЮ.468351.004; DType: Адаптер RS232-485; ValueSch: АВМЮ.468351.004; ComponentLink1Description: Datasheet
footprint АВМЮ.468351.004
pins: XP1_1 TX, XP1_2 RX, XP1_3 T/R, XP1_4 GND, XP1_5 DTR, XP1_6 RTS, XP1_7 U1, XP1_8 U2, XP3_1 A, XP3_2 B, XP3_3 +5, XP3_4 GND
text: XP1; XP3; 5; 1; 2; 3; 4; 6; 7; 8

## АВМЮ.468931.028
designator A?
Усилитель АВМЮ.468931.028; ValueBOM: Усилитель АВМЮ.468931.028; DType: Усилитель; ValueSch: АВМЮ.468931.028; ComponentLink1Description: Datasheet
footprint АВМЮ.468931.028
text: X1; X2; 1; 2; 3; 4; 5; 6

## АВМЮ.671121.052
designator T?
Трансформатор АВМЮ.671121.052; ValueBOM: Трансформатор АВМЮ.671121.052; DType: Трансформатор; ValueSch: АВМЮ.671121.052; ComponentLink1Description: Datasheet
footprint АВМЮ.671121.052
footprint АВМЮ.671121.052v
pins: 1, 2, 3, 4

## АВМЮ.671121.052-01
designator T?
Трансформатор АВМЮ.671121.052-01; ValueBOM: Трансформатор АВМЮ.671121.052-01; DType: Трансформатор; ValueSch: АВМЮ.671121.052-01; ComponentLink1Description: Datasheet
footprint АВМЮ.671121.052-01
footprint АВМЮ.671121.052-01V
pins: 1, 2, 3, 4

## АВМЮ.671121.053
designator T?
Трансформатор АВМЮ.671121.053; ValueBOM: Трансформатор АВМЮ.671121.053; DType: Трансформатор; ValueSch: АВМЮ.671121.053; ComponentLink1Description: Datasheet
footprint АВМЮ.671121.053
pins: 1, 2, 3, 4

## АВМЮ.671121.055
designator T?
Трансформатор АВМЮ.671121.055; ValueBOM: Трансформатор АВМЮ.671121.055; DType: Трансформатор; ValueSch: АВМЮ.671121.055; ComponentLink1Description: Datasheet; ComponentLink1URL: c:\Dataseets\Трансформаторы\По фирмам\Fair-Rite\2673015301.pdf
footprint АВМЮ.671121.055
part A pins: 1, 2
part B pins: 3, 4

## АВМЮ.671151.006
designator T?
Трансформатор синфазный АВМЮ.671151.006; ValueBOM: Трансформатор синфазный АВМЮ.671151.006; DType: Трансформатор синфазный; ValueSch: АВМЮ.671151.006; ComponentLink1Description: Datasheet; ComponentLink1URL: c:\Dataseets\Трансформаторы\По фирмам\Fair-Rite\2743019447.pdf
footprint АВМЮ.671151.006
pins: 1, 2, 3

## АВМЮ.671151.007
designator T?
Трансформатор АВМЮ.671151.007; ValueBOM: Трансформатор АВМЮ.671151.007; DType: Трансформатор; ValueSch: АВМЮ.671151.007; ComponentLink1Description: Datasheet; ComponentLink1URL: c:\Dataseets\Трансформаторы\По фирмам\Fair-Rite\3067990841.pdf
footprint АВМЮ.671151.007
part A pins: 1, 2, 5, 6
part B pins: 3, 4, 7, 8

## АВМЮ.671151.009
designator T?
Трансформатор АВМЮ.671151.009; ValueBOM: Трансформатор АВМЮ.671151.009; DType: Трансформатор; ValueSch: АВМЮ.671151.009; ComponentLink1Description: Datasheet; ComponentLink1URL: c:\Dataseets\Трансформаторы\По фирмам\EPCOS\ELP18.pdf
footprint АВМЮ.671151.009
pins: 1, 2, 3, 4

## АВМЮ.671342.066
designator TV?
Дроссель АВМЮ.671342.066; ValueBOM: Дроссель АВМЮ.671342.066; DType: Дроссель; ValueSch: АВМЮ.671342.066; ComponentLink1Description: Datasheet
footprint АВМЮ.671342.066
pins: 1, 2, 3, 4

## Д815Д
designator VD?
Стабилитрон Д815Д; Manufacturer: УЖ3.362.027ТУ; ValueBOM: Стабилитрон Д815Д УЖ3.362.027ТУ; DType: Стабилитрон; ValueSch: Д815Д; ComponentLink1Description: Datasheet; ComponentLink1URL: c:\Dataseets\Стабилитроны\Отечественные\d815_d817.pdf
footprint Д817
pins: 1 +, 2 -

## Д816В
designator VD?
Стабилитрон Д816В; Manufacturer: УЖ3.362.027ТУ; ValueBOM: Стабилитрон Д816В УЖ3.362.027ТУ; DType: Стабилитрон; ValueSch: Д816В; ComponentLink1Description: Datasheet; ComponentLink1URL: c:\Dataseets\Стабилитроны\Отечественные\d815_d817.pdf
footprint Д817
pins: 1 +, 2 -

## Д817В
designator VD?
Стабилитрон Д817В; Manufacturer: УЖ3.362.027ТУ; ValueBOM: Стабилитрон Д817В УЖ3.362.027ТУ; DType: Стабилитрон; ValueSch: Д817В; ComponentLink1Description: Datasheet; ComponentLink1URL: c:\Dataseets\Стабилитроны\Отечественные\d815_d817.pdf
footprint Д817
pins: 1 +, 2 -

## К15-5
designator C?  value 3300пФ  Voltage: 3кВ
Конденсатор К15-5; Part Number: К15-5-Н70-3кВ-3300пФ; Manufacturer: ОЖО.460.147ТУ; ValueBOM: Конденсатор К15-5-Н70-3кВ-3300пФ ОЖО.460.147ТУ; TKE: Н70; DType: Конденсатор; DName: К15-5; ValueSCH: К15-5-Н70-3кВ-3300пФ; ComponentLink1Description: Datasheet; ComponentLink1URL: c:\Dataseets\Конденсаторы\Отечественные\К15-5.pdf
footprint К15-5-D18_B5_DIP10
pins: 1, 2

## К73-17
designator C?  value 0,47мкФ  Voltage: 630В
Конденсатор К73-17; Part Number: К73-17-630В-0,47мкФ±10%; Manufacturer: ОЖ0.461.104ТУ; ValueBOM: Конденсатор К73-17-630В-0,47мкФ±10% ОЖ0.461.104ТУ; DType: Конденсатор; DName: К73-17; ValueSCH: К73-17-630В-0,47мкФ±10%; ComponentLink1Description: Datasheet; ComponentLink1URL: c:\Dataseets\Конденсаторы\Отечественные\К73-17.pdf
footprint К73-17-L25_W17_T10_Dip20
pins: 1, 2

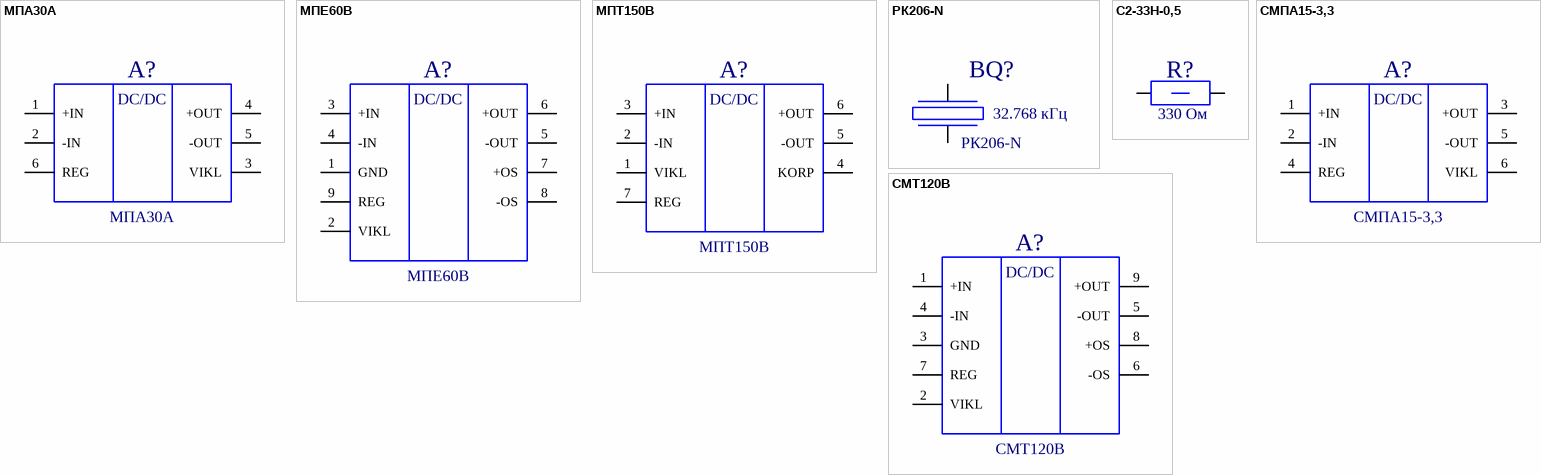
[diagram p10: symbols МПА30А to СМТ120В]

## МПА30А
designator A?
Модуль питания МПА30А; Manufacturer: ТУ 6589-052-40039437-07; ValueBOM: Модуль питания МПА30А ТУ 6589-052-40039437-07; ValueSch: МПА30А; DType: Модуль питания; ComponentLink1Description: Datasheet; ComponentLink1URL: c:\Dataseets\Источники питания\ИРБИС\Каталог 2011\ТУ\6589-052-40039437-07_3_090527.pdf
footprint МПА30А
pins: 1 +IN (power), 2 -IN (power), 3 VIKL, 4 +OUT (power), 5 -OUT (power), 6 REG
text: DC/DC

## МПЕ60В
designator A?
Модуль питания МПЕ60В; Manufacturer: ТУ6589-002-40039437-094; ValueBOM: Модуль питания МПЕ60В ТУ6589-002-40039437-094; ValueSch: МПЕ60В; DType: Модуль питания; ComponentLink1Description: Datasheet; ComponentLink1URL: c:\Dataseets\Источники питания\ИРБИС\Каталог 2011\ТУ\6589-002-40039437-09_1_090924.pdf
footprint МПЕ60В
pins: 1 GND, 2 VIKL, 3 +IN (power), 4 -IN (power), 5 -OUT (power), 6 +OUT (power), 7 +OS, 8 -OS, 9 REG
text: DC/DC

## МПТ150В
designator A?
Модуль питания МПТ150В; Manufacturer: ТУ 6589-036-40039437-09; ValueBOM: Модуль питания МПТ150В ТУ 6589-036-40039437-09; ValueSch: МПТ150В; DType: Модуль питания; ComponentLink1Description: Datasheet; ComponentLink1URL: c:\Dataseets\Источники питания\ИРБИС\мпт150в.pdf
footprint МПТ150В
pins: 1 VIKL, 2 -IN (power), 3 +IN (power), 4 KORP, 5 -OUT (power), 6 +OUT (power), 7 REG
text: DC/DC

## РК206-N
designator BQ?  value 32.768 кГц
Резонатор РК206-N; Part Number: РК206-N 32.768 кГц; Manufacturer: ТУ307-182.004-96; ValueBOM: Резонатор РК206-N 32.768 кГц ТУ307-182.004-96; DType: Резонатор; DName: РК206-N; ValueSCH: РК206-N 32.768 кГц; ComponentLink1Description: Datasheet; ComponentLink1URL: c:\Dataseets\Кварцевые резонаторы и генераторы\Отечественные\РК206-N.pdf
footprint DT26
pins: 1, 2

## С2-33Н-0,5
designator R?, comment value 330 Ом  (hidden comment: С2-33Н-0,5-330 Ом±5%-А-Д-В)
Резистор С2-33Н-0,5; Manufacturer: ОЖ0.467.093ТУ; ValueBOM: Резистор С2-33Н-0,5-330 Ом±5%-А-Д-В ОЖ0.467.093ТУ; Formovka: 1.0086.193.18**; Part Number: С2-33Н-0,5; DType: Резистор; DName: С2-33Н-0,5; ValueSCH: С2-33Н-0,5-330 Ом±5%-А-Д-В; ComponentLink1Description: Datasheet
footprint С2-33Н-0,5_Dip15
footprint С2-33Н-0,5_Pl19,3
footprint С2-33Н-0,5_PL22
pins: 1, 2

## СМПА15-3,3
designator A?
Модуль питания СМПА15-3,3; Manufacturer: ТУ 6589-038-40039437-10; ValueBOM: Модуль питания СМПА15-3,3 ТУ 6589-038-40039437-10; ValueSch: СМПА15-3,3; DType: Модуль питания; ComponentLink1Description: Datasheet; ComponentLink1URL: c:\Dataseets\Источники питания\ИРБИС\Каталог 2011\ТУ\6589-038-40039437-10_100301.pdff
footprint СМПА15-3,3
pins: 1 +IN (power), 2 -IN (power), 3 +OUT (power), 4 REG, 5 -OUT (power), 6 VIKL
text: DC/DC

## СМТ120В
designator A?
Модуль питания СМТ120В; Manufacturer: ТУ 6589-054-40039437-09; ValueBOM: Модуль питания СМТ120В ТУ 6589-054-40039437-09; ValueSch: СМТ120В; DType: Модуль питания; ComponentLink1Description: Datasheet; ComponentLink1URL: c:\Dataseets\Источники питания\ИРБИС\Каталог 2011\ТУ\6589-054-40039437-09_3_100319.pdf
footprint СМТ120В
pins: 1 +IN (power), 2 VIKL, 3 GND, 4 -IN (power), 5 -OUT (power), 6 -OS, 7 REG, 8 +OS, 9 +OUT (power)
text: DC/DC